# EAGLE library part 750342354 (library Wurth_Power Magnetics_WE-FLYTI)
WE-FLYTI Flyback Transformers Characteristics Low leakage inductance Multiple package sizes Wide range input voltages Different output voltages available Isolation voltage: up to 3000VAC Lead free and RoHS compliant Operating temp: -40°C to 125°C Applications Industrial and medical power supplies Auxiliary power supplies Home automation Isolated DC/DC power supplies <https://www.we-online.com/components/media/o795300v209%20FAMILY-MID-FLYTI.jpg> Details see: www.we-online.com/en/components/products/WE-FLYTI <www.we-online.com/catalog/WE-FLYTI/?utm_source=eagle_model&utm_medium=description_link&utm_campaign=eisos_eagle> Created by Ella Wu 2024-07-03 2024 (C) Wurth Elektronik
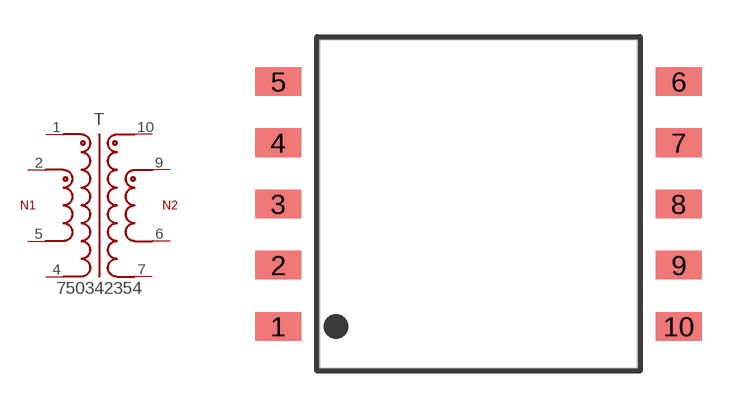
[diagram p5: symbol with the pads of WE-FLYTI_EP13_5465; footprint WE-FLYTI_EP13_5465]

Designator prefix T

## 750342354 (DATASHEET-URL: https://www.we-online.com/redexpert/spec/750342354?ae; IOUT1: 2000mA; ISAT: 4.5A; L: 12uH; LS: 235nH; MOUNT: SMT; N: 1.2:1; PART-NUMBER: 750342354; SIZE: EP13; VALUE: 750342354; VIN: 8 - 30 V (DC); VOUT1: 6V; VT: 1500V(AC))  [WE-FLYTI_EP13_5465]
1  1  pas
2  2  pas
4  4  pas
5  5  pas
6  6  pas
7  7  pas
9  9  pas
10  10  pas

## Footprint WE-FLYTI_EP13_5465 (pad centres in mm)
WE-FLYTI Flyback Transformers Size: EP13,SMT,10pins Bobbin: 070-5465
smd 1.88 x 1.17: 1 -8.18,-5; 2 -8.18,-2.5; 3 -8.18,0; 4 -8.18,2.5; 5 -8.18,5; 6 8.18,5; 7 8.18,2.5; 8 8.18,0; 9 8.18,-2.5; 10 8.18,-5